# Altium schematic symbol library higgsant.SchLib: 1 symbol
Pins are listed as number, name and electrical type; pins without a type are passive.

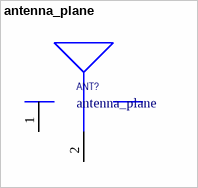
[diagram p0: symbol antenna_plane]

## antenna_plane
designator ANT?
Manufacturer: Siglabs; Manufacturer P/N: antenna_plane
footprint antenna_plane (sheetmetal antenna plane)
pins: 1, 2